# EAGLE library part MESHBEE (library ioh-1)
meshbee module
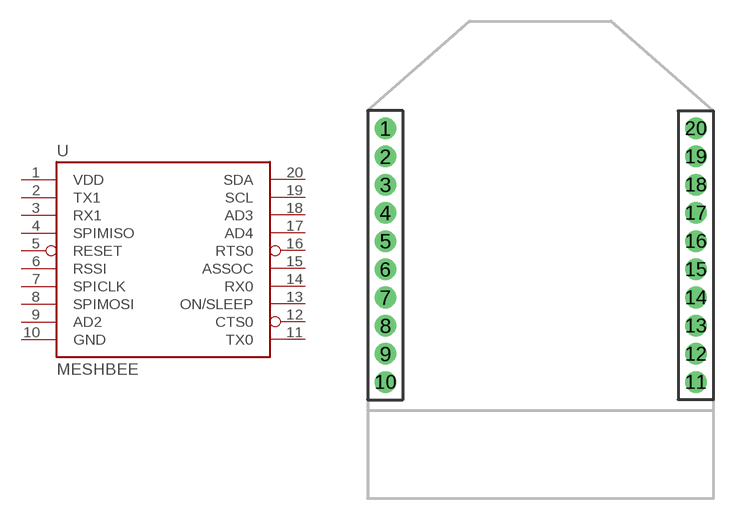
[diagram p0: symbol with the pads of MESHBEE; footprint MESHBEE]

Designator prefix -

## MESHBEE  [MESHBEE]
1  VDD  pwr
2  TX1  out
3  RX1  in
4  SPIMISO
5  RESET  in
6  RSSI
7  SPICLK
8  SPIMOSI
9  AD2
10  GND  pwr
11  TX0
12  CTS0  out
13  ON/SLEEP
14  RX0
15  ASSOC
16  RTS0  in
17  AD4
18  AD3
19  SCL
20  SDA

## Footprint MESHBEE (pad centres in mm)
drill 0.8 pad 1.524: 1 -11,8.57; 2 -11,6.57; 3 -11,4.57; 4 -11,2.57; 5 -11,0.57; 6 -11,-1.43; 7 -11,-3.43; 8 -11,-5.43; 9 -11,-7.43; 10 -11,-9.43; 11 11,-9.43; 12 11,-7.43; 13 11,-5.43; 14 11,-3.43; 15 11,-1.43; 16 11,0.57; 17 11,2.57; 18 11,4.57; 19 11,6.57; 20 11,8.57